# Altium footprint library 48V to BOB.PcbLib: 26 footprints (part 2 of 2)
Each footprint in its own frame and in the unit in brackets; x right, y up, seen from the top. Pads: shape width x height; smd on the part's side, far side on the other; paste and mask are expansions set on the pad; w line width, h text height; cw(c..) or ccw(c..) is an arc to the next point about the centre after c.
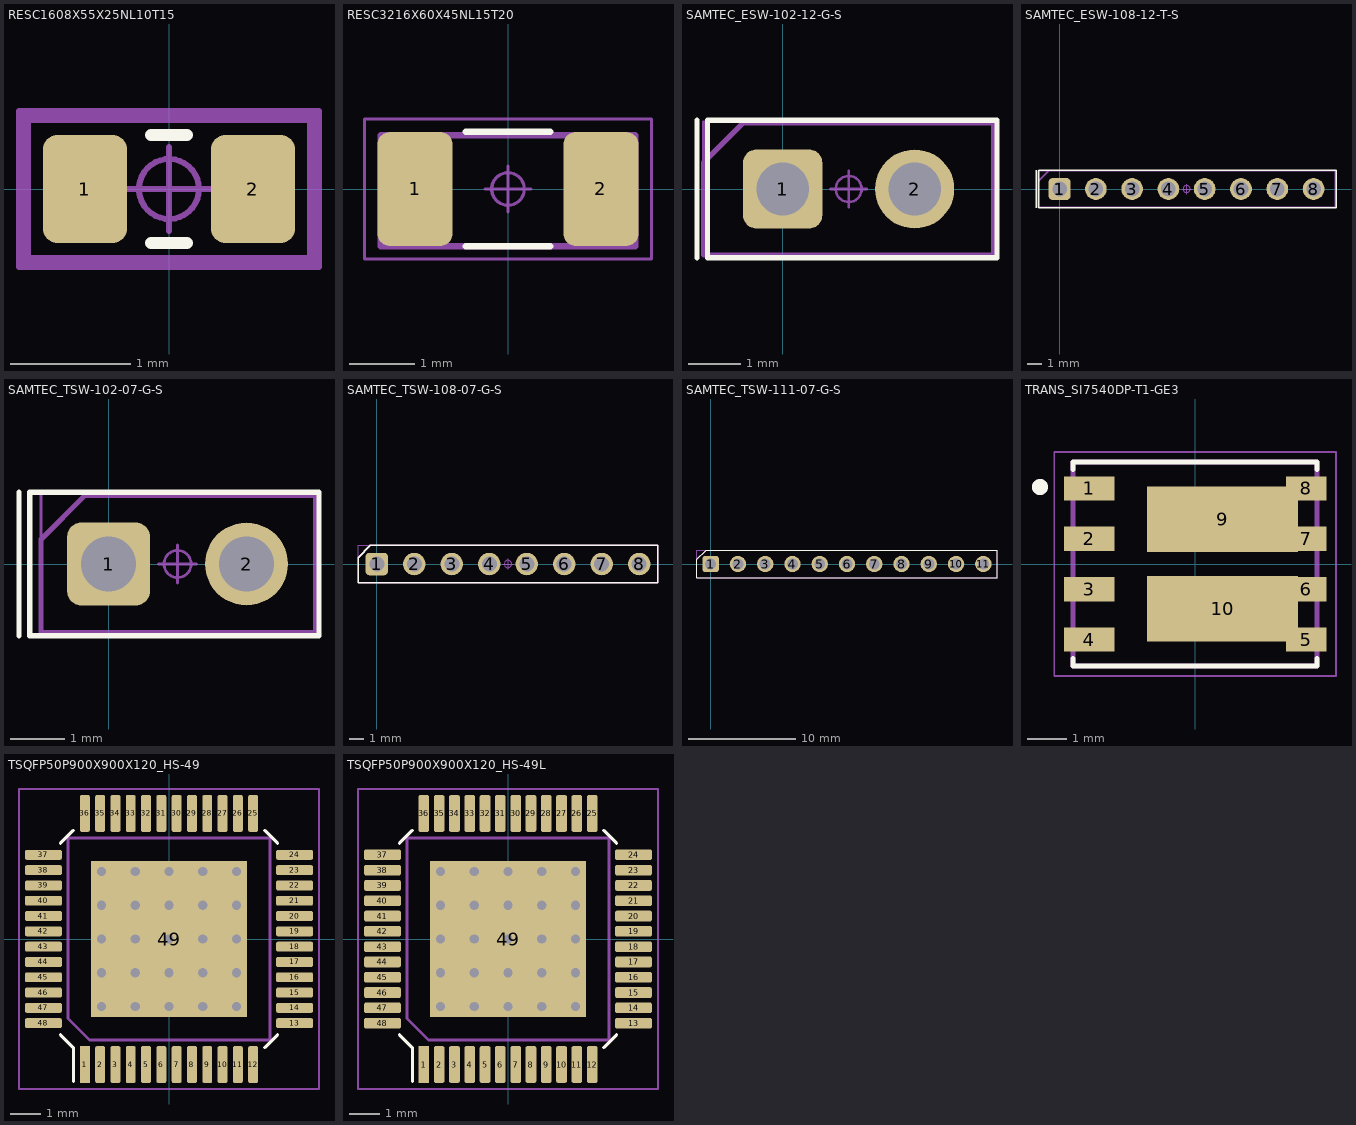
[diagram p1: the footprints below, top view; thin cyan lines are the x and y axes]

## RESC1608X55X25NL10T15 [mm] "Chip Resistor, 2-Leads, Body 1.70x0.90mm, IPC Level B, excluding Courtyard (Level C)"
height 0.55
pads (2):
  rrect33% 0.7x0.9 smd: 1(-0.7,0) 2(0.7,0)
Top Overlay:
  lines w0.1: -0.15,-0.45 0.15,-0.45 ; -0.15,0.45 0.15,0.45
Top Assembly (Mech6):
  lines w0.1: -1.2,-0.6 -1.2,0.6 1.2,0.6 1.2,-0.6 -1.2,-0.6
  text ".Designator" at -3.381,-0.339 h1.5
Top Courtyard:
  circle w0.05: c0,0 r0.25
  lines w0.05: -0.35,0 0.35,0 ; 0,-0.35 0,0.35 ; -1.25,-0.65 -1.25,0.65 1.25,0.65 1.25,-0.65 -1.25,-0.65
Top Value:
  lines w0.1: -1.2,-0.6 -1.2,0.6 1.2,0.6 1.2,-0.6 -1.2,-0.6
  text ".Comment" at -3.029,-0.481 h1.5
3D body "RESC1608X06N.step": height 0.55, standoff 0, extent -0.85,-0.45 0.85,0.45

## RESC3216X60X45NL15T20 [mm] "Chip Resistor, 2-Leads, Body 3.3x1.75mm, IPC Level B, excluding Courtyard (Level C)"
height 0.6
pads (2):
  rrect33% 1.15x1.75 smd: 1(-1.425,0) 2(1.425,0)
Top Overlay:
  lines w0.1: -0.65,-0.875 0.65,-0.875 ; -0.65,0.875 0.65,0.875
Top Assembly (Mech6):
  lines w0.1: -1.95,-0.875 1.95,-0.875 1.95,0.825 -1.95,0.825 -1.95,-0.875
  text ".Designator" at -3.381,-0.339 h1.5
Top Courtyard:
  circle w0.05: c0,0 r0.25
  lines w0.05: -0.35,0 0.35,0 ; 0,-0.35 0,0.35 ; -2.2,-1.075 2.2,-1.075 2.2,1.075 -2.2,1.075 -2.2,-1.075
Top Value:
  lines w0.1: -1.95,-0.875 1.95,-0.875 1.95,0.825 -1.95,0.825 -1.95,-0.875
  text ".Comment" at -3.029,-0.481 h1.5
3D body "RESC3116X06N.step": height 0.6, standoff 0, extent -1.65,-0.875 1.65,0.875

## SAMTEC_ESW-102-12-G-S [mil] "2.54mm Pitch PCB Socket, Single Row, Vertical, 2 Circuits"
pads (2):
  rrect33% 60x60 hole 40: 1(0,0)
  round 60 hole 40: 2(100,0)
Top Overlay:
  lines w3.94: -64.96,-52.17 -64.96,52.17 ; -57.09,-52.17 162.4,-52.17 162.4,52.17 -57.09,52.17 -57.09,-52.17
Top Assembly (Mech6):
  lines w3.94: -60,-50 160,-50 160,50 -30,50 -60,20 -60,-50
  text ".Designator" at -79.96,-13.37 h59.06
Top Courtyard:
  circle w1.97: c50,0 r9.84
  lines w1.97: 36.22,0 63.78,0 ; 50,-13.78 50,13.78 ; -60,-51 160,-51 160,51 -60,51 -60,-51
Top Value:
  lines w3.94: -60,-50 160,-50 160,50 -30,50 -60,20 -60,-50
  text ".Comment" at -66.12,-18.94 h59.06
3D body "ESW-102-12-L-S.stp": height 435.5, standoff -89.5, extent -60,-50 160,50

## SAMTEC_ESW-108-12-T-S [mil] "2.54mm Pitch PCB Socket Single Row, Vertical, 8 Circuits"
pads (8):
  rrect33% 60x60 hole 40: 1(0,0)
  round 60 hole 40: 2(100,0) 3(200,0) 4(300,0) 5(400,0) 6(500,0) 7(600,0) 8(700,0)
Top Overlay:
  lines w3.94: -64.96,-52.17 -64.96,52.17 ; -57.09,-52.17 -57.09,52.17 761.81,52.17 761.81,-52.17 -57.09,-52.17
Top Assembly (Mech6):
  lines w3.94: -60,-50 -60,20 -30,50 760,50 760,-50 -60,-50
  text ".Designator" at 214.33,-13.37 h59.06
Top Courtyard:
  circle w1.97: c350,0 r9.84
  lines w1.97: 336.22,0 363.78,0 ; 350,-13.78 350,13.78 ; -60,-50 760,-50 760,50 -60,50 -60,-50
Top Value:
  lines w3.94: -60,-50 760,-50 760,50 -30,50 -60,20 -60,-50
  text ".Comment" at 228.17,-18.94 h59.06
3D body "ESW-108-12-L-S.stp": height 435.5, standoff -89.5, extent -60,-50 760,50

## SAMTEC_TSW-102-07-G-S [mil] "2.54mm Pitch PCB Header, Single Row, Vertical, 2 Circuits"
pads (2):
  rrect33% 60x60 hole 40: 1(0,0)
  round 60 hole 40: 2(100,0)
Top Overlay:
  lines w3.94: -64.96,-52.17 -64.96,52.17 ; -57.09,-52.17 152.56,-52.17 152.56,52.17 -57.09,52.17 -57.09,-52.17
Top Assembly (Mech6):
  lines w3.94: -49,-50 150,-50 150,50 -16.93,50 -49,17.93 -49,-50
  text ".Designator" at -79.96,-13.37 h59.06
Top Courtyard:
  circle w1.97: c50,0 r9.84
  lines w1.97: 36.22,0 63.78,0 ; 50,-13.78 50,13.78 ; -49,-51 150,-51 150,51 -49,51 -49,-51
Top Value:
  lines w3.94: -49,-50 150,-50 150,50 -16.93,50 -49,17.93 -49,-50
  text ".Comment" at -66.12,-18.94 h59.06
3D body "TSW-102-07-G-S.stp": height 330.5, standoff -99.5, extent -55,-50 150,50

## SAMTEC_TSW-108-07-G-S [mil] "2.54mm Pitch PCB Header, Single Row, Vertical, 8 Circuits"
pads (8):
  rrect33% 60x60 hole 40: 1(0,0)
  round 60 hole 40: 2(100,0) 3(200,0) 4(300,0) 5(400,0) 6(500,0) 7(600,0) 8(700,0)
Top Overlay:
  lines w3.94: -50,-50 750,-50 750,50 -16.93,50 -50,16.93 -50,-50
Top Assembly (Mech6):
  lines w3.94: -50,-50 750,-50 750,50 -16.93,50 -50,16.93 -50,-50
  text ".Designator" at 214.33,-13.37 h59.06
Top Courtyard:
  circle w1.97: c350,0 r9.84
  lines w1.97: 336.22,0 363.78,0 ; 350,-13.78 350,13.78 ; -50,-50 749,-50 749,50 -50,50 -50,-50
Top Value:
  lines w3.94: -50,-50 750,-50 750,50 -16.93,50 -50,16.93 -50,-50
  text ".Comment" at 228.17,-18.94 h59.06
3D body "TSW-108-07-G-S.stp": height 330.5, standoff -99.5, extent -55,-50 750,50

## SAMTEC_TSW-111-07-G-S [mil] "2.54mm Pitch PCB Header, Single Row, Vertical, 11 Circuits"
pads (11):
  rrect33% 60x60 hole 40: 1(0,0)
  round 60 hole 40: 2(100,0) 3(200,0) 4(300,0) 5(400,0) 6(500,0) 7(600,0) 8(700,0) 9(800,0) 10(900,0) 11(1000,0)
Top Overlay:
  lines w3.94: -50,-50 1050,-50 1050,50 -16.93,50 -50,16.93 -50,-50
Top Assembly (Mech6):
  lines w3.94: -50,-50 1050,-50 1050,50 -16.93,50 -50,16.93 -50,-50
  text ".Designator" at 364.33,-13.37 h59.06
Top Courtyard:
  circle w1.97: c500,0 r9.84
  lines w1.97: 486.22,0 513.78,0 ; 500,-13.78 500,13.78 ; -50,-50 1050,-50 1050,50 -50,50 -50,-50
Top Value:
  lines w3.94: -50,-50 1050,-50 1050,50 -16.93,50 -50,16.93 -50,-50
  text ".Comment" at 378.17,-18.94 h59.06
3D body "TSW-111-07-G-S.stp": height 330.5, standoff -99.5, extent -55,-50 1050,50

## TRANS_SI7540DP-T1-GE3 [mm]
pads (10):
  rect 1.27x0.61 smd: 1(-2.67,1.905) 2(-2.67,0.635) 3(-2.67,-0.635) 4(-2.67,-1.905)
  rect 1.02x0.61 smd: 5(2.795,-1.905) 6(2.795,-0.635) 7(2.795,0.635) 8(2.795,1.905)
  rect 3.81x1.65 smd: 9(0.69,1.13) 10(0.69,-1.13)
Top Overlay:
  circle w0.2: c-3.91,1.94 r0.1
  lines w0.127: -3.075,-2.38 -3.075,-2.575 3.075,-2.575 3.075,-2.38 ; -3.075,2.38 -3.075,2.575 3.075,2.575 3.075,2.38
Bottom Value:
  circle w0.2: c-3.91,1.94 r0.1
  lines w0.127: -3.075,-2.575 -3.075,2.575 3.075,2.575 3.075,-2.575 -3.075,-2.575
Bottom Value (Mech15):
  lines w0.05: -3.55,-2.825 -3.55,2.825 3.55,2.825 3.55,-2.825 -3.55,-2.825

## TSQFP50P900X900X120_HS-49 [mm] "TQFP48-EP for Trinamic TMC5160"
height 1.2
pads (49):
  rrect1% 0.325x1.2 smd: 1(-2.75,-4.1)
  rrect33% 0.325x1.2 smd: 2(-2.25,-4.1) 3(-1.75,-4.1) 4(-1.25,-4.1) 5(-0.75,-4.1) 6(-0.25,-4.1) 7(0.25,-4.1) 8(0.75,-4.1) 9(1.25,-4.1) 10(1.75,-4.1) 11(2.25,-4.1) 12(2.75,-4.1) 25(2.75,4.1) 26(2.25,4.1) 27(1.75,4.1) 28(1.25,4.1) 29(0.75,4.1) 30(0.25,4.1) 31(-0.25,4.1) 32(-0.75,4.1) 33(-1.25,4.1) 34(-1.75,4.1) 35(-2.25,4.1) 36(-2.75,4.1)
  rrect33% 1.2x0.325 smd: 13(4.1,-2.75) 14(4.1,-2.25) 15(4.1,-1.75) 16(4.1,-1.25) 17(4.1,-0.75) 18(4.1,-0.25) 19(4.1,0.25) 20(4.1,0.75) 21(4.1,1.25) 22(4.1,1.75) 23(4.1,2.25) 24(4.1,2.75) 37(-4.1,2.75) 38(-4.1,2.25) 39(-4.1,1.75) 40(-4.1,1.25) 41(-4.1,0.75) 42(-4.1,0.25) 43(-4.1,-0.25) 44(-4.1,-0.75) 45(-4.1,-1.25) 46(-4.1,-1.75) 47(-4.1,-2.25) 48(-4.1,-2.75)
  rrect1% 5.1x5.1 smd paste-100: 49(0,0)
via -2.2,-2.2 diameter 0.6 hole 0.3
via -2.2,-1.1 diameter 0.6 hole 0.3
via -2.2,0 diameter 0.6 hole 0.3
via -2.2,1.1 diameter 0.6 hole 0.3
via -2.2,2.2 diameter 0.6 hole 0.3
via -1.1,-2.2 diameter 0.6 hole 0.3
via -1.1,-1.1 diameter 0.6 hole 0.3
via -1.1,0 diameter 0.6 hole 0.3
via -1.1,1.1 diameter 0.6 hole 0.3
via -1.1,2.2 diameter 0.6 hole 0.3
via 0,-2.2 diameter 0.6 hole 0.3
via 0,-1.1 diameter 0.6 hole 0.3
via 0,0 diameter 0.6 hole 0.3
via 0,1.1 diameter 0.6 hole 0.3
via 0,2.2 diameter 0.6 hole 0.3
via 1.1,-2.2 diameter 0.6 hole 0.3
via 1.1,-1.1 diameter 0.6 hole 0.3
via 1.1,0 diameter 0.6 hole 0.3
via 1.1,1.1 diameter 0.6 hole 0.3
via 1.1,2.2 diameter 0.6 hole 0.3
via 2.2,-2.2 diameter 0.6 hole 0.3
via 2.2,-1.1 diameter 0.6 hole 0.3
via 2.2,0 diameter 0.6 hole 0.3
via 2.2,1.1 diameter 0.6 hole 0.3
via 2.2,2.2 diameter 0.6 hole 0.3
Top Overlay:
  lines w0.1: -3.55,-3.125 -3.125,-3.55 -3.125,-4.65 ; -3.55,3.125 -3.125,3.55 ; 3.125,-3.55 3.55,-3.125 ; 3.125,3.55 3.55,3.125
Top Paste:
  region: -0.934,2.402 -2.402,2.402 -2.402,0.934 -0.934,0.934
  region: -0.934,0.734 -2.402,0.734 -2.402,-0.734 -0.934,-0.734
  region: -0.934,-0.934 -2.402,-0.934 -2.402,-2.402 -0.934,-2.402
  region: 0.734,2.402 -0.734,2.402 -0.734,0.934 0.734,0.934
  region: 0.734,0.734 -0.734,0.734 -0.734,-0.734 0.734,-0.734
  region: 0.734,-0.934 -0.734,-0.934 -0.734,-2.402 0.734,-2.402
  region: 2.402,2.402 0.934,2.402 0.934,0.934 2.402,0.934
  region: 2.402,0.734 0.934,0.734 0.934,-0.734 2.402,-0.734
  region: 2.402,-0.934 0.934,-0.934 0.934,-2.402 2.402,-2.402
Top Assembly (Mech6):
  lines w0.1: -3.3,-2.6 -2.6,-3.3 3.3,-3.3 3.3,3.3 -3.3,3.3 -3.3,-2.6
  text ".Designator" at -3.381,-0.339 h1.5
Top Courtyard:
  circle w0.05: c0,0 r0.25
  lines w0.05: -0.35,0 0.35,0 ; 0,-0.35 0,0.35 ; -4.9,-4.9 -4.9,4.9 4.9,4.9 4.9,-4.9 -4.9,-4.9
Top Value:
  lines w0.1: -3.3,-2.6 -2.6,-3.3 3.3,-3.3 3.3,3.3 -3.3,3.3 -3.3,-2.6
  text ".Comment" at -3.029,-0.481 h1.5
3D body "TQFP48.step": height 1.01, standoff -0.01, extent -4.5,-4.495 4.5,4.514

## TSQFP50P900X900X120_HS-49L [mm] "TQFP48-EP for Trinamic TMC5160, 0.325mm Pads for 0.075m soldermask dam if 0.05mm expansion, past mask tp agapdet to 49er version"
height 1.2
pads (49):
  rrect1% 0.35x1.2 smd: 1(-2.75,-4.1)
  rrect33% 0.35x1.2 smd: 2(-2.25,-4.1) 3(-1.75,-4.1) 4(-1.25,-4.1) 5(-0.75,-4.1) 6(-0.25,-4.1) 7(0.25,-4.1) 8(0.75,-4.1) 9(1.25,-4.1) 10(1.75,-4.1) 11(2.25,-4.1) 12(2.75,-4.1) 25(2.75,4.1) 26(2.25,4.1) 27(1.75,4.1) 28(1.25,4.1) 29(0.75,4.1) 30(0.25,4.1) 31(-0.25,4.1) 32(-0.75,4.1) 33(-1.25,4.1) 34(-1.75,4.1) 35(-2.25,4.1) 36(-2.75,4.1)
  rrect33% 1.2x0.35 smd: 13(4.1,-2.75) 14(4.1,-2.25) 15(4.1,-1.75) 16(4.1,-1.25) 17(4.1,-0.75) 18(4.1,-0.25) 19(4.1,0.25) 20(4.1,0.75) 21(4.1,1.25) 22(4.1,1.75) 37(-4.1,2.75) 38(-4.1,2.25) 39(-4.1,1.75) 40(-4.1,1.25) 41(-4.1,0.75) 42(-4.1,0.25) 43(-4.1,-0.25) 44(-4.1,-0.75) 45(-4.1,-1.25) 46(-4.1,-1.75) 47(-4.1,-2.25) 48(-4.1,-2.75)
  rrect33% 1.2x0.35 smd mask+0.05: 23(4.1,2.25) 24(4.1,2.75)
  rrect1% 5.1x5.1 smd: 49(0,0)
via -2.2,-2.2 diameter 0.6 hole 0.3
via -2.2,-1.1 diameter 0.6 hole 0.3
via -2.2,0 diameter 0.6 hole 0.3
via -2.2,1.1 diameter 0.6 hole 0.3
via -2.2,2.2 diameter 0.6 hole 0.3
via -1.1,-2.2 diameter 0.6 hole 0.3
via -1.1,-1.1 diameter 0.6 hole 0.3
via -1.1,0 diameter 0.6 hole 0.3
via -1.1,1.1 diameter 0.6 hole 0.3
via -1.1,2.2 diameter 0.6 hole 0.3
via 0,-2.2 diameter 0.6 hole 0.3
via 0,-1.1 diameter 0.6 hole 0.3
via 0,0 diameter 0.6 hole 0.3
via 0,1.1 diameter 0.6 hole 0.3
via 0,2.2 diameter 0.6 hole 0.3
via 1.1,-2.2 diameter 0.6 hole 0.3
via 1.1,-1.1 diameter 0.6 hole 0.3
via 1.1,0 diameter 0.6 hole 0.3
via 1.1,1.1 diameter 0.6 hole 0.3
via 1.1,2.2 diameter 0.6 hole 0.3
via 2.2,-2.2 diameter 0.6 hole 0.3
via 2.2,-1.1 diameter 0.6 hole 0.3
via 2.2,0 diameter 0.6 hole 0.3
via 2.2,1.1 diameter 0.6 hole 0.3
via 2.2,2.2 diameter 0.6 hole 0.3
Top Overlay:
  lines w0.1: -3.55,-3.125 -3.125,-3.55 -3.125,-4.65 ; -3.55,3.125 -3.125,3.55 ; 3.125,-3.55 3.55,-3.125 ; 3.125,3.55 3.55,3.125
Top Assembly (Mech6):
  lines w0.1: -3.3,-2.6 -2.6,-3.3 3.3,-3.3 3.3,3.3 -3.3,3.3 -3.3,-2.6
  text ".Designator" at -3.381,-0.339 h1.5
Top Courtyard:
  circle w0.05: c0,0 r0.25
  lines w0.05: -0.35,0 0.35,0 ; 0,-0.35 0,0.35 ; -4.9,-4.9 -4.9,4.9 4.9,4.9 4.9,-4.9 -4.9,-4.9
Top Value:
  lines w0.1: -3.3,-2.6 -2.6,-3.3 3.3,-3.3 3.3,3.3 -3.3,3.3 -3.3,-2.6
  text ".Comment" at -3.029,-0.481 h1.5
3D body "TQFP48.step": height 1.01, standoff -0.01, extent -4.5,-4.495 4.5,4.514